# Altium integrated library Agilent Optoelectronic LED.IntLib: 357 symbols (part 1 of 6)
Pins are listed as number, name and electrical type; pins without a type are passive.

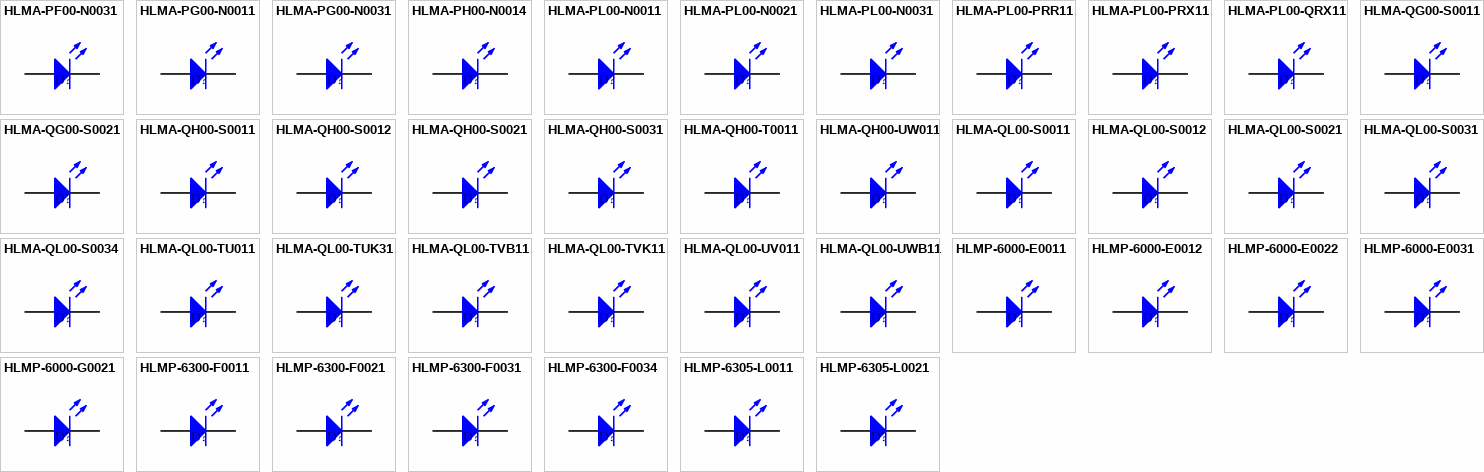
[diagram p0: symbols HLMA-PF00-N0031 to HLMP-6305-L0021]

## HLMA-PF00-N0031
designator D?
Subminiature High Performance AlInGaP Red LED Lamp; LuminousIntensity: 25mcd (Minimum).; PCB_Layout: Complies with manufacturer's recommendation.; DrillSize: Nominal, Rounded to nearest 0.05mm; Published: 11-Dec-2002; DatasheetDocument: 24-Oct-2001; PackageDocument: 19-Apr-2001; PackageReference: 2.2X2.1X2.2Z; Publisher: Altium Limited; LED_Colour: Red; ComponentLink1Description: Manufacturer Link; ComponentLink1URL: http://www.agilent.com/; ComponentLink2Description: Datasheet; ComponentLink2URL: http://cp.literature.agilent.com/litweb/pdf/5988-4548EN.pdf
footprint 2.2X2.1X2.2Z (SM LED; 2 Z-Bend Leads)
simulation model Agl_HLMPQG00 (Diode)
signal-integrity model LED
pins: 1 A, 2 K

## HLMA-PG00-N0011
designator D?
Subminiature High Performance AlInGaP Red LED Lamp; LuminousIntensity: 25mcd (Minimum).; PCB_Layout: Complies with manufacturer's recommendation.; Published: 11-Dec-2002; LatestRevisionDate: 19-Mar-2004; LatestRevisionNote: Silkscreen size reduced.; DatasheetDocument: 24-Oct-2001; PackageDocument: 19-Apr-2001; PackageReference: 2.2X2.1X2.2; Publisher: Altium Limited; LED_Colour: Red; ComponentLink1Description: Manufacturer Link; ComponentLink1URL: http://www.agilent.com/; ComponentLink2Description: Datasheet; ComponentLink2URL: http://cp.literature.agilent.com/litweb/pdf/5988-4548EN.pdf
footprint 2.2X2.1X2.2 (SM LED; 2 Gull Wing Leads; Body 2.2 x 2.1 mm, (LxW))
simulation model Agl_HLMPQG00 (Diode)
signal-integrity model LED
pins: 1 A, 2 K

## HLMA-PG00-N0031
designator D?
Subminiature High Performance AlInGaP Red LED Lamp; LuminousIntensity: 25mcd (Minimum).; PCB_Layout: Complies with manufacturer's recommendation.; DrillSize: Nominal, Rounded to nearest 0.05mm; Published: 11-Dec-2002; DatasheetDocument: 24-Oct-2001; PackageDocument: 19-Apr-2001; PackageReference: 2.2X2.1X2.2Z; Publisher: Altium Limited; LED_Colour: Red; ComponentLink1Description: Manufacturer Link; ComponentLink1URL: http://www.agilent.com/; ComponentLink2Description: Datasheet; ComponentLink2URL: http://cp.literature.agilent.com/litweb/pdf/5988-4548EN.pdf
footprint 2.2X2.1X2.2Z (SM LED; 2 Z-Bend Leads)
simulation model Agl_HLMPQG00 (Diode)
signal-integrity model LED
pins: 1 A, 2 K

## HLMA-PH00-N0014
designator D?
Subminiature High Performance AlInGaP Red/Orange LED Lamp; LuminousIntensity: 25mcd (Minimum).; LED_Colour: Red & Orange; PCB_Layout: Complies with manufacturer's recommendation.; Published: 11-Dec-2002; LatestRevisionDate: 19-Mar-2004; LatestRevisionNote: Silkscreen size reduced.; DatasheetDocument: 24-Oct-2001; PackageDocument: 19-Apr-2001; PackageReference: 2.2X2.1X2.2; Publisher: Altium Limited; ComponentLink1Description: Manufacturer Link; ComponentLink1URL: http://www.agilent.com/; ComponentLink2Description: Datasheet; ComponentLink2URL: http://cp.literature.agilent.com/litweb/pdf/5988-4548EN.pdf
footprint 2.2X2.1X2.2 (SM LED; 2 Gull Wing Leads; Body 2.2 x 2.1 mm, (LxW))
simulation model Agl_HLMPQG00 (Diode)
signal-integrity model LED
pins: 1 A, 2 K

## HLMA-PL00-N0011
designator D?
Subminiature High Performance AlInGaP Amber LED Lamp; LuminousIntensity: 25mcd (Minimum).; PCB_Layout: Complies with manufacturer's recommendation.; Published: 11-Dec-2002; LatestRevisionDate: 19-Mar-2004; LatestRevisionNote: Silkscreen size reduced.; DatasheetDocument: 24-Oct-2001; PackageDocument: 19-Apr-2001; PackageReference: 2.2X2.1X2.2; Publisher: Altium Limited; LED_Colour: Amber; ComponentLink1Description: Manufacturer Link; ComponentLink1URL: http://www.agilent.com/; ComponentLink2Description: Datasheet; ComponentLink2URL: http://cp.literature.agilent.com/litweb/pdf/5988-4548EN.pdf
footprint 2.2X2.1X2.2 (SM LED; 2 Gull Wing Leads; Body 2.2 x 2.1 mm, (LxW))
simulation model Agl_HLMPQG00 (Diode)
signal-integrity model LED
pins: 1 A, 2 K

## HLMA-PL00-N0021
designator D?
Subminiature High Performance AlInGaP Amber LED Lamp; LuminousIntensity: 25mcd (Minimum).; PCB_Layout: Complies with manufacturer's recommendation.; DrillSize: Nominal, Rounded to nearest 0.05mm; Published: 11-Dec-2002; DatasheetDocument: 24-Oct-2001; PackageDocument: 19-Apr-2001; PackageReference: 2.2X2.1X2.2Y; Publisher: Altium Limited; LED_Colour: Amber; ComponentLink1Description: Manufacturer Link; ComponentLink1URL: http://www.agilent.com/; ComponentLink2Description: Datasheet; ComponentLink2URL: http://cp.literature.agilent.com/litweb/pdf/5988-4548EN.pdf
footprint 2.2X2.1X2.2Y (SM LED; 2 Yoke Leads)
simulation model Agl_HLMPQG00 (Diode)
signal-integrity model LED
pins: 1 A, 2 K

## HLMA-PL00-N0031
designator D?
Subminiature High Performance AlInGaP Amber LED Lamp; LuminousIntensity: 25mcd (Minimum).; PCB_Layout: Complies with manufacturer's recommendation.; DrillSize: Nominal, Rounded to nearest 0.05mm; Published: 11-Dec-2002; DatasheetDocument: 24-Oct-2001; PackageDocument: 19-Apr-2001; PackageReference: 2.2X2.1X2.2Z; Publisher: Altium Limited; LED_Colour: Amber; ComponentLink1Description: Manufacturer Link; ComponentLink1URL: http://www.agilent.com/; ComponentLink2Description: Datasheet; ComponentLink2URL: http://cp.literature.agilent.com/litweb/pdf/5988-4548EN.pdf
footprint 2.2X2.1X2.2Z (SM LED; 2 Z-Bend Leads)
simulation model Agl_HLMPQG00 (Diode)
signal-integrity model LED
pins: 1 A, 2 K

## HLMA-PL00-PRR11
designator D?
Subminiature High Performance AlInGaP Amber LED Lamp; LuminousIntensity: 40mcd (Minimum).; PCB_Layout: Complies with manufacturer's recommendation.; Published: 11-Dec-2002; LatestRevisionDate: 19-Mar-2004; LatestRevisionNote: Silkscreen size reduced.; DatasheetDocument: 24-Oct-2001; PackageDocument: 19-Apr-2001; PackageReference: 2.2X2.1X2.2; Publisher: Altium Limited; LED_Colour: Amber; ComponentLink1Description: Manufacturer Link; ComponentLink1URL: http://www.agilent.com/; ComponentLink2Description: Datasheet; ComponentLink2URL: http://cp.literature.agilent.com/litweb/pdf/5988-4548EN.pdf
footprint 2.2X2.1X2.2 (SM LED; 2 Gull Wing Leads; Body 2.2 x 2.1 mm, (LxW))
simulation model Agl_HLMPQG00 (Diode)
signal-integrity model LED
pins: 1 A, 2 K

## HLMA-PL00-PRX11
designator D?
Subminiature High Performance AlInGaP Amber LED Lamp; LuminousIntensity: 40mcd (Minimum).; PCB_Layout: Complies with manufacturer's recommendation.; Published: 11-Dec-2002; LatestRevisionDate: 19-Mar-2004; LatestRevisionNote: Silkscreen size reduced.; DatasheetDocument: 24-Oct-2001; PackageDocument: 19-Apr-2001; PackageReference: 2.2X2.1X2.2; Publisher: Altium Limited; LED_Colour: Amber; ComponentLink1Description: Manufacturer Link; ComponentLink1URL: http://www.agilent.com/; ComponentLink2Description: Datasheet; ComponentLink2URL: http://cp.literature.agilent.com/litweb/pdf/5988-4548EN.pdf
footprint 2.2X2.1X2.2 (SM LED; 2 Gull Wing Leads; Body 2.2 x 2.1 mm, (LxW))
simulation model Agl_HLMPQG00 (Diode)
signal-integrity model LED
pins: 1 A, 2 K

## HLMA-PL00-QRX11
designator D?
Subminiature High Performance AlInGaP Amber LED Lamp; LuminousIntensity: 63mcd (Minimum).; PCB_Layout: Complies with manufacturer's recommendation.; Published: 11-Dec-2002; LatestRevisionDate: 19-Mar-2004; LatestRevisionNote: Silkscreen size reduced.; DatasheetDocument: 24-Oct-2001; PackageDocument: 19-Apr-2001; PackageReference: 2.2X2.1X2.2; Publisher: Altium Limited; LED_Colour: Amber; ComponentLink1Description: Manufacturer Link; ComponentLink1URL: http://www.agilent.com/; ComponentLink2Description: Datasheet; ComponentLink2URL: http://cp.literature.agilent.com/litweb/pdf/5988-4548EN.pdf
footprint 2.2X2.1X2.2 (SM LED; 2 Gull Wing Leads; Body 2.2 x 2.1 mm, (LxW))
simulation model Agl_HLMPQG00 (Diode)
signal-integrity model LED
pins: 1 A, 2 K

## HLMA-QG00-S0011
designator D?
Subminiature High Performance AS AlInGaP Red LED Lamp; LuminousIntensity: 160mcd (Minimum).; PCB_Layout: Complies with manufacturer's recommendation.; DrillSize: Nominal, Rounded to nearest 0.05mm; Published: 11-Dec-2002; LatestRevisionDate: 19-Mar-2004; LatestRevisionNote: Silkscreen size reduced.; DatasheetDocument: 24-Oct-2001; PackageDocument: 19-Apr-2001; PackageReference: 2.2X2.1X2.9; Publisher: Altium Limited; LED_Colour: Red; ComponentLink1Description: Manufacturer Link; ComponentLink1URL: http://www.agilent.com/; ComponentLink2Description: Datasheet; ComponentLink2URL: http://cp.literature.agilent.com/litweb/pdf/5988-4548EN.pdf
footprint 2.2X2.1X2.9 (SM LED; 2 Gull Wing Leads; Body 2.2 x 2.1 mm, (LxW))
simulation model Agl_HLMPQG00 (Diode)
signal-integrity model LED
pins: 1 A, 2 K

## HLMA-QG00-S0021
designator D?
Subminiature High Performance AS AlInGaP Red LED Lamp; LuminousIntensity: 160mcd (Minimum).; PCB_Layout: Complies with manufacturer's recommendation.; DrillSize: Nominal, Rounded to nearest 0.05mm; Published: 11-Dec-2002; DatasheetDocument: 24-Oct-2001; PackageDocument: 19-Apr-2001; PackageReference: 2.2X2.1X2.9Y; Publisher: Altium Limited; LED_Colour: Red; ComponentLink1Description: Manufacturer Link; ComponentLink1URL: http://www.agilent.com/; ComponentLink2Description: Datasheet; ComponentLink2URL: http://cp.literature.agilent.com/litweb/pdf/5988-4548EN.pdf
footprint 2.2X2.1X2.9Y (SM LED; 2 Yoke Leads)
simulation model Agl_HLMPQG00 (Diode)
signal-integrity model LED
pins: 1 A, 2 K

## HLMA-QH00-S0011
designator D?
Subminiature High Performance AS AlInGaP Red/Orange LED Lamp; LuminousIntensity: 160mcd (Minimum).; LED_Colour: Red & Orange; PCB_Layout: Complies with manufacturer's recommendation.; Published: 11-Dec-2002; LatestRevisionDate: 19-Mar-2004; LatestRevisionNote: Silkscreen size reduced.; DatasheetDocument: 24-Oct-2001; PackageDocument: 19-Apr-2001; PackageReference: 2.2X2.1X2.9; Publisher: Altium Limited; ComponentLink1Description: Manufacturer Link; ComponentLink1URL: http://www.agilent.com/; ComponentLink2Description: Datasheet; ComponentLink2URL: http://cp.literature.agilent.com/litweb/pdf/5988-4548EN.pdf
footprint 2.2X2.1X2.9 (SM LED; 2 Gull Wing Leads; Body 2.2 x 2.1 mm, (LxW))
simulation model Agl_HLMPQG00 (Diode)
signal-integrity model LED
pins: 1 A, 2 K

## HLMA-QH00-S0012
designator D?
Subminiature High Performance AS AlInGaP Red/Orange LED Lamp; LuminousIntensity: 160mcd (Minimum).; LED_Colour: Red & Orange; PCB_Layout: Complies with manufacturer's recommendation.; Published: 11-Dec-2002; LatestRevisionDate: 19-Mar-2004; LatestRevisionNote: Silkscreen size reduced.; DatasheetDocument: 24-Oct-2001; PackageDocument: 19-Apr-2001; PackageReference: 2.2X2.1X2.9; Publisher: Altium Limited; ComponentLink1Description: Manufacturer Link; ComponentLink1URL: http://www.agilent.com/; ComponentLink2Description: Datasheet; ComponentLink2URL: http://cp.literature.agilent.com/litweb/pdf/5988-4548EN.pdf
footprint 2.2X2.1X2.9 (SM LED; 2 Gull Wing Leads; Body 2.2 x 2.1 mm, (LxW))
simulation model Agl_HLMPQG00 (Diode)
signal-integrity model LED
pins: 1 A, 2 K

## HLMA-QH00-S0021
designator D?
Subminiature High Performance AlInGaP Red/Orange LED Lamp; LuminousIntensity: 160mcd (Minimum).; LED_Colour: Red & Orange; PCB_Layout: Complies with manufacturer's recommendation.; DrillSize: Nominal, Rounded to nearest 0.05mm; Published: 11-Dec-2002; DatasheetDocument: 24-Oct-2001; PackageDocument: 19-Apr-2001; PackageReference: 2.2X2.1X2.9Y; Publisher: Altium Limited; ComponentLink1Description: Manufacturer Link; ComponentLink1URL: http://www.agilent.com/; ComponentLink2Description: Datasheet; ComponentLink2URL: http://cp.literature.agilent.com/litweb/pdf/5988-4548EN.pdf
footprint 2.2X2.1X2.9Y (SM LED; 2 Yoke Leads)
simulation model Agl_HLMPQG00 (Diode)
signal-integrity model LED
pins: 1 A, 2 K

## HLMA-QH00-S0031
designator D?
Subminiature High Performance AlInGaP Red/Orange LED Lamp; LuminousIntensity: 160mcd (Minimum).; LED_Colour: Red & Orange; PCB_Layout: Complies with manufacturer's recommendation.; DrillSize: Nominal, Rounded to nearest 0.05mm; Published: 11-Dec-2002; DatasheetDocument: 24-Oct-2001; PackageDocument: 19-Apr-2001; PackageReference: 2.2X2.1X2.9Z; Publisher: Altium Limited; ComponentLink1Description: Manufacturer Link; ComponentLink1URL: http://www.agilent.com/; ComponentLink2Description: Datasheet; ComponentLink2URL: http://cp.literature.agilent.com/litweb/pdf/5988-4548EN.pdf
footprint 2.2X2.1X2.9Z (SM LED; 2 Z-Bend Leads)
simulation model Agl_HLMPQG00 (Diode)
signal-integrity model LED
pins: 1 A, 2 K

## HLMA-QH00-T0011
designator D?
Subminiature High Performance AlInGaP Red/Orange LED Lamp; LuminousIntensity: 250mcd (Minimum).; LED_Colour: Red & Orange; PCB_Layout: Complies with manufacturer's recommendation.; Published: 11-Dec-2002; LatestRevisionDate: 19-Mar-2004; LatestRevisionNote: Silkscreen size reduced.; DatasheetDocument: 24-Oct-2001; PackageDocument: 19-Apr-2001; PackageReference: 2.2X2.1X2.9; Publisher: Altium Limited; ComponentLink1Description: Manufacturer Link; ComponentLink1URL: http://www.agilent.com/; ComponentLink2Description: Datasheet; ComponentLink2URL: http://cp.literature.agilent.com/litweb/pdf/5988-4548EN.pdf
footprint 2.2X2.1X2.9 (SM LED; 2 Gull Wing Leads; Body 2.2 x 2.1 mm, (LxW))
simulation model Agl_HLMPQG00 (Diode)
signal-integrity model LED
pins: 1 A, 2 K

## HLMA-QH00-UW011
designator D?
Subminiature High Performance AlInGaP Red/Orange LED Lamp; LuminousIntensity: 400mcd (Minimum).; LED_Colour: Red & Orange; PCB_Layout: Complies with manufacturer's recommendation.; Published: 11-Dec-2002; LatestRevisionDate: 19-Mar-2004; LatestRevisionNote: Silkscreen size reduced.; DatasheetDocument: 24-Oct-2001; PackageDocument: 19-Apr-2001; PackageReference: 2.2X2.1X2.9; Publisher: Altium Limited; ComponentLink1Description: Manufacturer Link; ComponentLink1URL: http://www.agilent.com/; ComponentLink2Description: Datasheet; ComponentLink2URL: http://cp.literature.agilent.com/litweb/pdf/5988-4548EN.pdf
footprint 2.2X2.1X2.9 (SM LED; 2 Gull Wing Leads; Body 2.2 x 2.1 mm, (LxW))
simulation model Agl_HLMPQG00 (Diode)
signal-integrity model LED
pins: 1 A, 2 K

## HLMA-QL00-S0011
designator D?
Subminiature High Performance AlInGaP Amber LED Lamp; LuminousIntensity: 160mcd (Minimum).; PCB_Layout: Complies with manufacturer's recommendation.; Published: 11-Dec-2002; LatestRevisionDate: 19-Mar-2004; LatestRevisionNote: Silkscreen size reduced.; DatasheetDocument: 24-Oct-2001; PackageDocument: 19-Apr-2001; PackageReference: 2.2X2.1X2.9; Publisher: Altium Limited; LED_Colour: Amber; ComponentLink1Description: Manufacturer Link; ComponentLink1URL: http://www.agilent.com/; ComponentLink2Description: Datasheet; ComponentLink2URL: http://cp.literature.agilent.com/litweb/pdf/5988-4548EN.pdf
footprint 2.2X2.1X2.9 (SM LED; 2 Gull Wing Leads; Body 2.2 x 2.1 mm, (LxW))
simulation model Agl_HLMPQG00 (Diode)
signal-integrity model LED
pins: 1 A, 2 K

## HLMA-QL00-S0012
designator D?
Subminiature High Performance AlInGaP Amber LED Lamp; LuminousIntensity: 160mcd (Minimum).; PCB_Layout: Complies with manufacturer's recommendation.; Published: 11-Dec-2002; LatestRevisionDate: 19-Mar-2004; LatestRevisionNote: Silkscreen size reduced.; DatasheetDocument: 24-Oct-2001; PackageDocument: 19-Apr-2001; PackageReference: 2.2X2.1X2.9; Publisher: Altium Limited; LED_Colour: Amber; ComponentLink1Description: Manufacturer Link; ComponentLink1URL: http://www.agilent.com/; ComponentLink2Description: Datasheet; ComponentLink2URL: http://cp.literature.agilent.com/litweb/pdf/5988-4548EN.pdf
footprint 2.2X2.1X2.9 (SM LED; 2 Gull Wing Leads; Body 2.2 x 2.1 mm, (LxW))
simulation model Agl_HLMPQG00 (Diode)
signal-integrity model LED
pins: 1 A, 2 K

## HLMA-QL00-S0021
designator D?
Subminiature High Performance AlInGaP Amber LED Lamp; LuminousIntensity: 160mcd (Minimum).; PCB_Layout: Complies with manufacturer's recommendation.; DrillSize: Nominal, Rounded to nearest 0.05mm; Published: 11-Dec-2002; DatasheetDocument: 24-Oct-2001; PackageDocument: 19-Apr-2001; PackageReference: 2.2X2.1X2.9Y; Publisher: Altium Limited; LED_Colour: Amber; ComponentLink1Description: Manufacturer Link; ComponentLink1URL: http://www.agilent.com/; ComponentLink2Description: Datasheet; ComponentLink2URL: http://cp.literature.agilent.com/litweb/pdf/5988-4548EN.pdf
footprint 2.2X2.1X2.9Y (SM LED; 2 Yoke Leads)
simulation model Agl_HLMPQG00 (Diode)
signal-integrity model LED
pins: 1 A, 2 K

## HLMA-QL00-S0031
designator D?
Subminiature High Performance AlInGaP Amber LED Lamp; LuminousIntensity: 160mcd (Minimum).; PCB_Layout: Complies with manufacturer's recommendation.; DrillSize: Nominal, Rounded to nearest 0.05mm; Published: 11-Dec-2002; DatasheetDocument: 24-Oct-2001; PackageDocument: 19-Apr-2001; PackageReference: 2.2X2.1X2.9Z; Publisher: Altium Limited; LED_Colour: Amber; ComponentLink1Description: Manufacturer Link; ComponentLink1URL: http://www.agilent.com/; ComponentLink2Description: Datasheet; ComponentLink2URL: http://cp.literature.agilent.com/litweb/pdf/5988-4548EN.pdf
footprint 2.2X2.1X2.9Z (SM LED; 2 Z-Bend Leads)
simulation model Agl_HLMPQG00 (Diode)
signal-integrity model LED
pins: 1 A, 2 K

## HLMA-QL00-S0034
designator D?
Subminiature High Performance AlInGaP Amber LED Lamp; LuminousIntensity: 160mcd (Minimum).; PCB_Layout: Complies with manufacturer's recommendation.; DrillSize: Nominal, Rounded to nearest 0.05mm; Published: 11-Dec-2002; DatasheetDocument: 24-Oct-2001; PackageDocument: 19-Apr-2001; PackageReference: 2.2X2.1X2.9Z; Publisher: Altium Limited; LED_Colour: Amber; ComponentLink1Description: Manufacturer Link; ComponentLink1URL: http://www.agilent.com/; ComponentLink2Description: Datasheet; ComponentLink2URL: http://cp.literature.agilent.com/litweb/pdf/5988-4548EN.pdf
footprint 2.2X2.1X2.9Z (SM LED; 2 Z-Bend Leads)
simulation model Agl_HLMPQG00 (Diode)
signal-integrity model LED
pins: 1 A, 2 K

## HLMA-QL00-TU011
designator D?
Subminiature High Performance AlInGaP Amber LED Lamp; LuminousIntensity: 250mcd (Minimum).; PCB_Layout: Complies with manufacturer's recommendation.; Published: 11-Dec-2002; LatestRevisionDate: 19-Mar-2004; LatestRevisionNote: Silkscreen size reduced.; DatasheetDocument: 24-Oct-2001; PackageDocument: 19-Apr-2001; PackageReference: 2.2X2.1X2.9; Publisher: Altium Limited; LED_Colour: Amber; ComponentLink1Description: Manufacturer Link; ComponentLink1URL: http://www.agilent.com/; ComponentLink2Description: Datasheet; ComponentLink2URL: http://cp.literature.agilent.com/litweb/pdf/5988-4548EN.pdf
footprint 2.2X2.1X2.9 (SM LED; 2 Gull Wing Leads; Body 2.2 x 2.1 mm, (LxW))
simulation model Agl_HLMPQG00 (Diode)
signal-integrity model LED
pins: 1 A, 2 K

## HLMA-QL00-TUK31
designator D?
Subminiature High Performance AlInGaP Amber LED Lamp; LuminousIntensity: 250mcd (Minimum).; PCB_Layout: Complies with manufacturer's recommendation.; DrillSize: Nominal, Rounded to nearest 0.05mm; Published: 11-Dec-2002; DatasheetDocument: 24-Oct-2001; PackageDocument: 19-Apr-2001; PackageReference: 2.2X2.1X2.9Z; Publisher: Altium Limited; LED_Colour: Amber; ComponentLink1Description: Manufacturer Link; ComponentLink1URL: http://www.agilent.com/; ComponentLink2Description: Datasheet; ComponentLink2URL: http://cp.literature.agilent.com/litweb/pdf/5988-4548EN.pdf
footprint 2.2X2.1X2.9Z (SM LED; 2 Z-Bend Leads)
simulation model Agl_HLMPQG00 (Diode)
signal-integrity model LED
pins: 1 A, 2 K

## HLMA-QL00-TVB11
designator D?
Subminiature High Performance AlInGaP Amber LED Lamp; LuminousIntensity: 250mcd (Minimum).; PCB_Layout: Complies with manufacturer's recommendation.; Published: 11-Dec-2002; LatestRevisionDate: 19-Mar-2004; LatestRevisionNote: Silkscreen size reduced.; DatasheetDocument: 24-Oct-2001; PackageDocument: 19-Apr-2001; PackageReference: 2.2X2.1X2.9; Publisher: Altium Limited; LED_Colour: Amber; ComponentLink1Description: Manufacturer Link; ComponentLink1URL: http://www.agilent.com/; ComponentLink2Description: Datasheet; ComponentLink2URL: http://cp.literature.agilent.com/litweb/pdf/5988-4548EN.pdf
footprint 2.2X2.1X2.9 (SM LED; 2 Gull Wing Leads; Body 2.2 x 2.1 mm, (LxW))
simulation model Agl_HLMPQG00 (Diode)
signal-integrity model LED
pins: 1 A, 2 K

## HLMA-QL00-TVK11
designator D?
Subminiature High Performance AlInGaP Amber LED Lamp; LuminousIntensity: 250mcd (Minimum).; PCB_Layout: Complies with manufacturer's recommendation.; Published: 11-Dec-2002; LatestRevisionDate: 19-Mar-2004; LatestRevisionNote: Silkscreen size reduced.; DatasheetDocument: 24-Oct-2001; PackageDocument: 19-Apr-2001; PackageReference: 2.2X2.1X2.9; Publisher: Altium Limited; LED_Colour: Amber; ComponentLink1Description: Manufacturer Link; ComponentLink1URL: http://www.agilent.com/; ComponentLink2Description: Datasheet; ComponentLink2URL: http://cp.literature.agilent.com/litweb/pdf/5988-4548EN.pdf
footprint 2.2X2.1X2.9 (SM LED; 2 Gull Wing Leads; Body 2.2 x 2.1 mm, (LxW))
simulation model Agl_HLMPQG00 (Diode)
signal-integrity model LED
pins: 1 A, 2 K

## HLMA-QL00-UV011
designator D?
Subminiature High Performance AlInGaP Amber LED Lamp; LuminousIntensity: 400mcd (Minimum).; PCB_Layout: Complies with manufacturer's recommendation.; Published: 11-Dec-2002; LatestRevisionDate: 19-Mar-2004; LatestRevisionNote: Silkscreen size reduced.; DatasheetDocument: 24-Oct-2001; PackageDocument: 19-Apr-2001; PackageReference: 2.2X2.1X2.9; Publisher: Altium Limited; LED_Colour: Amber; ComponentLink1Description: Manufacturer Link; ComponentLink1URL: http://www.agilent.com/; ComponentLink2Description: Datasheet; ComponentLink2URL: http://cp.literature.agilent.com/litweb/pdf/5988-4548EN.pdf
footprint 2.2X2.1X2.9 (SM LED; 2 Gull Wing Leads; Body 2.2 x 2.1 mm, (LxW))
simulation model Agl_HLMPQG00 (Diode)
signal-integrity model LED
pins: 1 A, 2 K

## HLMA-QL00-UWB11
designator D?
Subminiature High Performance AlInGaP Amber LED Lamp; LuminousIntensity: 400mcd (Minimum).; PCB_Layout: Complies with manufacturer's recommendation.; Published: 11-Dec-2002; LatestRevisionDate: 19-Mar-2004; LatestRevisionNote: Silkscreen size reduced.; DatasheetDocument: 24-Oct-2001; PackageDocument: 19-Apr-2001; PackageReference: 2.2X2.1X2.9; Publisher: Altium Limited; LED_Colour: Amber; ComponentLink1Description: Manufacturer Link; ComponentLink1URL: http://www.agilent.com/; ComponentLink2Description: Datasheet; ComponentLink2URL: http://cp.literature.agilent.com/litweb/pdf/5988-4548EN.pdf
footprint 2.2X2.1X2.9 (SM LED; 2 Gull Wing Leads; Body 2.2 x 2.1 mm, (LxW))
simulation model Agl_HLMPQG00 (Diode)
signal-integrity model LED
pins: 1 A, 2 K

## HLMP-6000-E0011
designator D?
Subminiature Red LED Lamp; LuminousIntensity: 0.63mcd (Minimum).; PCB_Layout: Complies with manufacturer's recommendation.; Published: 11-Dec-2002; LatestRevisionDate: 19-Mar-2004; LatestRevisionNote: Silkscreen size reduced.; DatasheetDocument: 30-Apr-2002; PackageDocument: Apr-2001; PackageReference: 2.2X2.1X2.9; Publisher: Altium Limited; LED_Colour: Red; ComponentLink1Description: Manufacturer Link; ComponentLink1URL: http://www.agilent.com/; ComponentLink2Description: Datasheet; ComponentLink2URL: http://cp.literature.agilent.com/litweb/pdf/5988-6260EN.pdf
footprint 2.2X2.1X2.9 (SM LED; 2 Gull Wing Leads; Body 2.2 x 2.1 mm, (LxW))
simulation model HLMP6000 (SUBCKT)
signal-integrity model LED
pins: 1 A, 2 K

## HLMP-6000-E0012
designator D?
Subminiature Red LED Lamp; LuminousIntensity: 0.63mcd (Minimum).; PCB_Layout: Complies with manufacturer's recommendation.; Published: 11-Dec-2002; LatestRevisionDate: 19-Mar-2004; LatestRevisionNote: Silkscreen size reduced.; DatasheetDocument: 30-Apr-2002; PackageDocument: Apr-2001; PackageReference: 2.2X2.1X2.9; Publisher: Altium Limited; LED_Colour: Red; ComponentLink1Description: Manufacturer Link; ComponentLink1URL: http://www.agilent.com/; ComponentLink2Description: Datasheet; ComponentLink2URL: http://cp.literature.agilent.com/litweb/pdf/5988-6260EN.pdf
footprint 2.2X2.1X2.9 (SM LED; 2 Gull Wing Leads; Body 2.2 x 2.1 mm, (LxW))
simulation model HLMP6000 (SUBCKT)
signal-integrity model LED
pins: 1 A, 2 K

## HLMP-6000-E0022
designator D?
Subminiature Red LED Lamp; LuminousIntensity: 0.63mcd (Minimum).; PCB_Layout: Complies with manufacturer's recommendation.; DrillSize: Nominal, Rounded to nearest 0.05mm; Published: 11-Dec-2002; DatasheetDocument: 30-Apr-2002; PackageDocument: 19-Apr-2001; PackageReference: 2.2X2.1X2.9Y; Publisher: Altium Limited; LED_Colour: Red; ComponentLink1Description: Manufacturer Link; ComponentLink1URL: http://www.agilent.com/; ComponentLink2Description: Datasheet; ComponentLink2URL: http://cp.literature.agilent.com/litweb/pdf/5988-6260EN.pdf
footprint 2.2X2.1X2.9Y (SM LED; 2 Yoke Leads)
simulation model HLMP6000 (SUBCKT)
signal-integrity model LED
pins: 1 A, 2 K

## HLMP-6000-E0031
designator D?
Subminiature Red LED Lamp; LuminousIntensity: 0.63mcd (Minimum).; PCB_Layout: Complies with manufacturer's recommendation.; DrillSize: Nominal, Rounded to nearest 0.05mm; Published: 11-Dec-2002; DatasheetDocument: 30-Apr-2002; PackageDocument: 19-Apr-2001; PackageReference: 2.2X2.1X2.9Z; Publisher: Altium Limited; LED_Colour: Red; ComponentLink1Description: Manufacturer Link; ComponentLink1URL: http://www.agilent.com/; ComponentLink2Description: Datasheet; ComponentLink2URL: http://cp.literature.agilent.com/litweb/pdf/5988-6260EN.pdf
footprint 2.2X2.1X2.9Z (SM LED; 2 Z-Bend Leads)
simulation model HLMP6000 (SUBCKT)
signal-integrity model LED
pins: 1 A, 2 K

## HLMP-6000-G0021
designator D?
Subminiature Red LED Lamp; LuminousIntensity: 1.6mcd (Minimum).; PCB_Layout: Complies with manufacturer's recommendation.; DrillSize: Nominal, Rounded to nearest 0.05mm; Published: 11-Dec-2002; DatasheetDocument: 30-Apr-2002; PackageDocument: 19-Apr-2001; PackageReference: 2.2X2.1X2.9Y; Publisher: Altium Limited; LED_Colour: Red; ComponentLink1Description: Manufacturer Link; ComponentLink1URL: http://www.agilent.com/; ComponentLink2Description: Datasheet; ComponentLink2URL: http://cp.literature.agilent.com/litweb/pdf/5988-6260EN.pdf
footprint 2.2X2.1X2.9Y (SM LED; 2 Yoke Leads)
simulation model HLMP6000 (SUBCKT)
signal-integrity model LED
pins: 1 A, 2 K

## HLMP-6300-F0011
designator D?
Subminiature Red LED Lamp; LuminousIntensity: 1mcd (Minimum).; PCB_Layout: Complies with manufacturer's recommendation.; Published: 11-Dec-2002; LatestRevisionDate: 19-Mar-2004; LatestRevisionNote: Silkscreen size reduced.; DatasheetDocument: 30-Apr-2002; PackageDocument: 19-Apr-2001; PackageReference: 2.2X2.1X2.9; Publisher: Altium Limited; LED_Colour: Red; ComponentLink1Description: Manufacturer Link; ComponentLink1URL: http://www.agilent.com/; ComponentLink2Description: Datasheet; ComponentLink2URL: http://cp.literature.agilent.com/litweb/pdf/5988-6260EN.pdf
footprint 2.2X2.1X2.9 (SM LED; 2 Gull Wing Leads; Body 2.2 x 2.1 mm, (LxW))
simulation model Agl_HLMP7000 (Diode)
signal-integrity model LED
pins: 1 A, 2 K

## HLMP-6300-F0021
designator D?
Subminiature Red LED Lamp; LuminousIntensity: 1mcd (Minimum).; PCB_Layout: Complies with manufacturer's recommendation.; DrillSize: Nominal, Rounded to nearest 0.05mm; Published: 11-Dec-2002; DatasheetDocument: 30-Apr-2002; PackageDocument: 19-Apr-2001; PackageReference: 2.2X2.1X2.9Y; Publisher: Altium Limited; LED_Colour: Red; ComponentLink1Description: Manufacturer Link; ComponentLink1URL: http://www.agilent.com/; ComponentLink2Description: Datasheet; ComponentLink2URL: http://cp.literature.agilent.com/litweb/pdf/5988-6260EN.pdf
footprint 2.2X2.1X2.9Y (SM LED; 2 Yoke Leads)
simulation model Agl_HLMP7000 (Diode)
signal-integrity model LED
pins: 1 A, 2 K

## HLMP-6300-F0031
designator D?
Subminiature Red LED Lamp; LuminousIntensity: 1mcd (Minimum).; PCB_Layout: Complies with manufacturer's recommendation.; DrillSize: Nominal, Rounded to nearest 0.05mm; Published: 11-Dec-2002; DatasheetDocument: 30-Apr-2002; PackageDocument: 19-Apr-2001; PackageReference: 2.2X2.1X2.9Z; Publisher: Altium Limited; LED_Colour: Red; ComponentLink1Description: Manufacturer Link; ComponentLink1URL: http://www.agilent.com/; ComponentLink2Description: Datasheet; ComponentLink2URL: http://cp.literature.agilent.com/litweb/pdf/5988-6260EN.pdf
footprint 2.2X2.1X2.9Z (SM LED; 2 Z-Bend Leads)
simulation model Agl_HLMP7000 (Diode)
signal-integrity model LED
pins: 1 A, 2 K

## HLMP-6300-F0034
designator D?
Subminiature Red LED Lamp; LuminousIntensity: 1mcd (Minimum).; PCB_Layout: Complies with manufacturer's recommendation.; DrillSize: Nominal, Rounded to nearest 0.05mm; Published: 11-Dec-2002; DatasheetDocument: 30-Apr-2002; PackageDocument: 19-Apr-2001; PackageReference: 2.2X2.1X2.9Z; Publisher: Altium Limited; LED_Colour: Red; ComponentLink1Description: Manufacturer Link; ComponentLink1URL: http://www.agilent.com/; ComponentLink2Description: Datasheet; ComponentLink2URL: http://cp.literature.agilent.com/litweb/pdf/5988-6260EN.pdf
footprint 2.2X2.1X2.9Z (SM LED; 2 Z-Bend Leads)
simulation model Agl_HLMP7000 (Diode)
signal-integrity model LED
pins: 1 A, 2 K

## HLMP-6305-L0011
designator D?
Subminiature Red LED Lamp; LuminousIntensity: 10mcd (Minimum).; PCB_Layout: Complies with manufacturer's recommendation.; Published: 11-Dec-2002; LatestRevisionDate: 19-Mar-2004; LatestRevisionNote: Silkscreen size reduced.; DatasheetDocument: 30-Apr-2002; PackageDocument: 19-Apr-2001; PackageReference: 2.2X2.1X2.9; Publisher: Altium Limited; LED_Colour: Red; ComponentLink1Description: Manufacturer Link; ComponentLink1URL: http://www.agilent.com/; ComponentLink2Description: Datasheet; ComponentLink2URL: http://cp.literature.agilent.com/litweb/pdf/5988-6260EN.pdf
footprint 2.2X2.1X2.9 (SM LED; 2 Gull Wing Leads; Body 2.2 x 2.1 mm, (LxW))
simulation model Agl_HLMP7000 (Diode)
signal-integrity model LED
pins: 1 A, 2 K

## HLMP-6305-L0021
designator D?
Subminiature Red LED Lamp; LuminousIntensity: 10mcd (Minimum).; PCB_Layout: Complies with manufacturer's recommendation.; DrillSize: Nominal, Rounded to nearest 0.05mm; Published: 11-Dec-2002; DatasheetDocument: 30-Apr-2002; PackageDocument: 19-Apr-2001; PackageReference: 2.2X2.1X2.9Y; Publisher: Altium Limited; LED_Colour: Red; ComponentLink1Description: Manufacturer Link; ComponentLink1URL: http://www.agilent.com/; ComponentLink2Description: Datasheet; ComponentLink2URL: http://cp.literature.agilent.com/litweb/pdf/5988-6260EN.pdf
footprint 2.2X2.1X2.9Y (SM LED; 2 Yoke Leads)
simulation model Agl_HLMP7000 (Diode)
signal-integrity model LED
pins: 1 A, 2 K

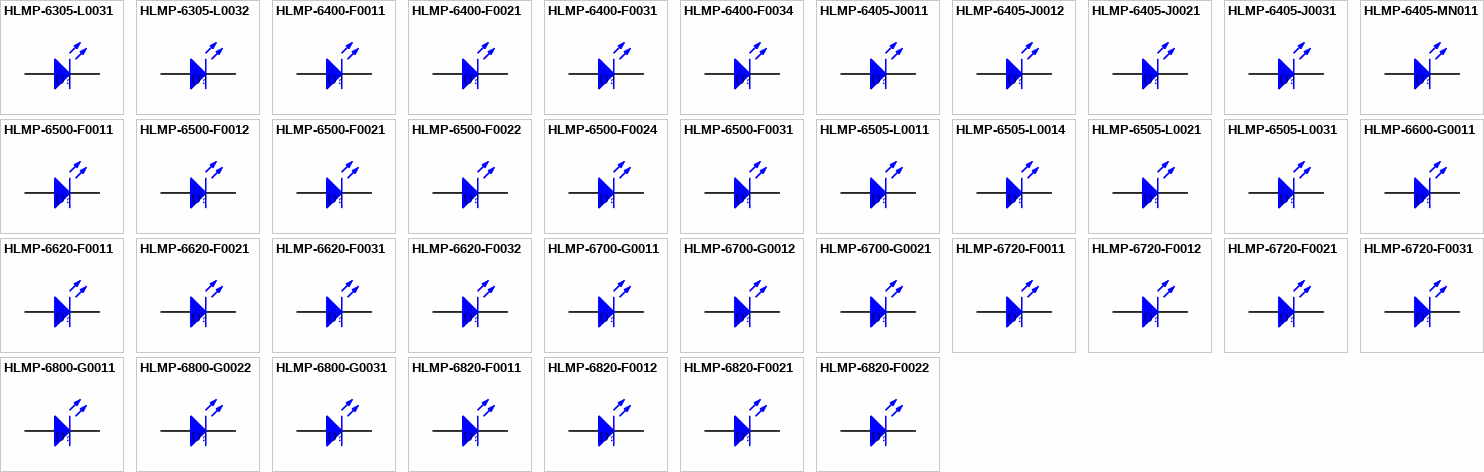
[diagram p1: symbols HLMP-6305-L0031 to HLMP-6820-F0022]

## HLMP-6305-L0031
designator D?
Subminiature Red LED Lamp; LuminousIntensity: 10mcd (Minimum).; PCB_Layout: Complies with manufacturer's recommendation.; DrillSize: Nominal, Rounded to nearest 0.05mm; Published: 11-Dec-2002; DatasheetDocument: 30-Apr-2002; PackageDocument: 19-Apr-2001; PackageReference: 2.2X2.1X2.9Z; Publisher: Altium Limited; LED_Colour: Red; ComponentLink1Description: Manufacturer Link; ComponentLink1URL: http://www.agilent.com/; ComponentLink2Description: Datasheet; ComponentLink2URL: http://cp.literature.agilent.com/litweb/pdf/5988-6260EN.pdf
footprint 2.2X2.1X2.9Z (SM LED; 2 Z-Bend Leads)
simulation model Agl_HLMP7000 (Diode)
signal-integrity model LED
pins: 1 A, 2 K

## HLMP-6305-L0032
designator D?
Subminiature Red LED Lamp; LuminousIntensity: 10mcd (Minimum).; PCB_Layout: Complies with manufacturer's recommendation.; DrillSize: Nominal, Rounded to nearest 0.05mm; Published: 11-Dec-2002; DatasheetDocument: 30-Apr-2002; PackageDocument: 19-Apr-2001; PackageReference: 2.2X2.1X2.9Z; Publisher: Altium Limited; LED_Colour: Red; ComponentLink1Description: Manufacturer Link; ComponentLink1URL: http://www.agilent.com/; ComponentLink2Description: Datasheet; ComponentLink2URL: http://cp.literature.agilent.com/litweb/pdf/5988-6260EN.pdf
footprint 2.2X2.1X2.9Z (SM LED; 2 Z-Bend Leads)
simulation model Agl_HLMP7000 (Diode)
signal-integrity model LED
pins: 1 A, 2 K

## HLMP-6400-F0011
designator D?
Subminiature Yellow LED Lamp; LuminousIntensity: 1mcd (Minimum).; PCB_Layout: Complies with manufacturer's recommendation.; Published: 11-Dec-2002; LatestRevisionDate: 19-Mar-2004; LatestRevisionNote: Silkscreen size reduced.; DatasheetDocument: 30-Apr-2002; PackageDocument: 19-Apr-2001; PackageReference: 2.2X2.1X2.9; Publisher: Altium Limited; LED_Colour: Yellow; ComponentLink1Description: Manufacturer Link; ComponentLink1URL: http://www.agilent.com/; ComponentLink2Description: Datasheet; ComponentLink2URL: http://cp.literature.agilent.com/litweb/pdf/5988-6260EN.pdf
footprint 2.2X2.1X2.9 (SM LED; 2 Gull Wing Leads; Body 2.2 x 2.1 mm, (LxW))
simulation model Agl_HLMP7019 (Diode)
signal-integrity model LED
pins: 1 A, 2 K

## HLMP-6400-F0021
designator D?
Subminiature Yellow LED Lamp; LuminousIntensity: 1mcd (Minimum).; PCB_Layout: Complies with manufacturer's recommendation.; DrillSize: Nominal, Rounded to nearest 0.05mm; Published: 11-Dec-2002; DatasheetDocument: 30-Apr-2002; PackageDocument: 19-Apr-2001; PackageReference: 2.2X2.1X2.9Y; Publisher: Altium Limited; LED_Colour: Yellow; ComponentLink1Description: Manufacturer Link; ComponentLink1URL: http://www.agilent.com/; ComponentLink2Description: Datasheet; ComponentLink2URL: http://cp.literature.agilent.com/litweb/pdf/5988-6260EN.pdf
footprint 2.2X2.1X2.9Y (SM LED; 2 Yoke Leads)
simulation model Agl_HLMP7019 (Diode)
signal-integrity model LED
pins: 1 A, 2 K

## HLMP-6400-F0031
designator D?
Subminiature Yellow LED Lamp; LuminousIntensity: 1mcd (Minimum).; PCB_Layout: Complies with manufacturer's recommendation.; DrillSize: Nominal, Rounded to nearest 0.05mm; Published: 11-Dec-2002; DatasheetDocument: 30-Apr-2002; PackageDocument: 19-Apr-2001; PackageReference: 2.2X2.1X2.9Z; Publisher: Altium Limited; LED_Colour: Yellow; ComponentLink1Description: Manufacturer Link; ComponentLink1URL: http://www.agilent.com/; ComponentLink2Description: Datasheet; ComponentLink2URL: http://cp.literature.agilent.com/litweb/pdf/5988-6260EN.pdf
footprint 2.2X2.1X2.9Z (SM LED; 2 Z-Bend Leads)
simulation model Agl_HLMP7019 (Diode)
signal-integrity model LED
pins: 1 A, 2 K

## HLMP-6400-F0034
designator D?
Subminiature Yellow LED Lamp; LuminousIntensity: 1mcd (Minimum).; PCB_Layout: Complies with manufacturer's recommendation.; DrillSize: Nominal, Rounded to nearest 0.05mm; Published: 11-Dec-2002; DatasheetDocument: 30-Apr-2002; PackageDocument: 19-Apr-2001; PackageReference: 2.2X2.1X2.9Z; Publisher: Altium Limited; LED_Colour: Yellow; ComponentLink1Description: Manufacturer Link; ComponentLink1URL: http://www.agilent.com/; ComponentLink2Description: Datasheet; ComponentLink2URL: http://cp.literature.agilent.com/litweb/pdf/5988-6260EN.pdf
footprint 2.2X2.1X2.9Z (SM LED; 2 Z-Bend Leads)
simulation model Agl_HLMP7019 (Diode)
signal-integrity model LED
pins: 1 A, 2 K

## HLMP-6405-J0011
designator D?
Subminiature Yellow LED Lamp; LuminousIntensity: 3.6mcd (Minimum).; PCB_Layout: Complies with manufacturer's recommendation.; Published: 11-Dec-2002; LatestRevisionDate: 19-Mar-2004; LatestRevisionNote: Silkscreen size reduced.; DatasheetDocument: 30-Apr-2002; PackageDocument: 19-Apr-2001; PackageReference: 2.2X2.1X2.9; Publisher: Altium Limited; LED_Colour: Yellow; ComponentLink1Description: Manufacturer Link; ComponentLink1URL: http://www.agilent.com/; ComponentLink2Description: Datasheet; ComponentLink2URL: http://cp.literature.agilent.com/litweb/pdf/5988-6260EN.pdf
footprint 2.2X2.1X2.9 (SM LED; 2 Gull Wing Leads; Body 2.2 x 2.1 mm, (LxW))
simulation model Agl_HLMP7019 (Diode)
signal-integrity model LED
pins: 1 A, 2 K

## HLMP-6405-J0012
designator D?
Subminiature Yellow LED Lamp; LuminousIntensity: 3.6mcd (Minimum).; PCB_Layout: Complies with manufacturer's recommendation.; Published: 11-Dec-2002; LatestRevisionDate: 19-Mar-2004; LatestRevisionNote: Silkscreen size reduced.; DatasheetDocument: 30-Apr-2002; PackageDocument: 19-Apr-2001; PackageReference: 2.2X2.1X2.9; Publisher: Altium Limited; LED_Colour: Yellow; ComponentLink1Description: Manufacturer Link; ComponentLink1URL: http://www.agilent.com/; ComponentLink2Description: Datasheet; ComponentLink2URL: http://cp.literature.agilent.com/litweb/pdf/5988-6260EN.pdf
footprint 2.2X2.1X2.9 (SM LED; 2 Gull Wing Leads; Body 2.2 x 2.1 mm, (LxW))
simulation model Agl_HLMP7019 (Diode)
signal-integrity model LED
pins: 1 A, 2 K

## HLMP-6405-J0021
designator D?
Subminiature Yellow LED Lamp; LuminousIntensity: 3.6mcd (Minimum).; PCB_Layout: Complies with manufacturer's recommendation.; DrillSize: Nominal, Rounded to nearest 0.05mm; Published: 11-Dec-2002; DatasheetDocument: 30-Apr-2002; PackageDocument: 19-Apr-2001; PackageReference: 2.2X2.1X2.9Y; Publisher: Altium Limited; LED_Colour: Yellow; ComponentLink1Description: Manufacturer Link; ComponentLink1URL: http://www.agilent.com/; ComponentLink2Description: Datasheet; ComponentLink2URL: http://cp.literature.agilent.com/litweb/pdf/5988-6260EN.pdf
footprint 2.2X2.1X2.9Y (SM LED; 2 Yoke Leads)
simulation model Agl_HLMP7019 (Diode)
signal-integrity model LED
pins: 1 A, 2 K

## HLMP-6405-J0031
designator D?
Subminiature Yellow LED Lamp; LuminousIntensity: 3.6mcd (Minimum).; PCB_Layout: Complies with manufacturer's recommendation.; DrillSize: Nominal, Rounded to nearest 0.05mm; Published: 11-Dec-2002; DatasheetDocument: 30-Apr-2002; PackageDocument: 19-Apr-2001; PackageReference: 2.2X2.1X2.9Z; Publisher: Altium Limited; LED_Colour: Yellow; ComponentLink1Description: Manufacturer Link; ComponentLink1URL: http://www.agilent.com/; ComponentLink2Description: Datasheet; ComponentLink2URL: http://cp.literature.agilent.com/litweb/pdf/5988-6260EN.pdf
footprint 2.2X2.1X2.9Z (SM LED; 2 Z-Bend Leads)
simulation model Agl_HLMP7019 (Diode)
signal-integrity model LED
pins: 1 A, 2 K

## HLMP-6405-MN011
designator D?
Subminiature Yellow LED Lamp; LuminousIntensity: 16mcd (Minimum).; PCB_Layout: Complies with manufacturer's recommendation.; Published: 11-Dec-2002; LatestRevisionDate: 19-Mar-2004; LatestRevisionNote: Silkscreen size reduced.; DatasheetDocument: 30-Apr-2002; PackageDocument: 19-Apr-2001; PackageReference: 2.2X2.1X2.9; Publisher: Altium Limited; LED_Colour: Yellow; ComponentLink1Description: Manufacturer Link; ComponentLink1URL: http://www.agilent.com/; ComponentLink2Description: Datasheet; ComponentLink2URL: http://cp.literature.agilent.com/litweb/pdf/5988-6260EN.pdf
footprint 2.2X2.1X2.9 (SM LED; 2 Gull Wing Leads; Body 2.2 x 2.1 mm, (LxW))
simulation model Agl_HLMP7019 (Diode)
signal-integrity model LED
pins: 1 A, 2 K

## HLMP-6500-F0011
designator D?
Subminiature Green LED Lamp; LuminousIntensity: 1mcd (Minimum).; PCB_Layout: Complies with manufacturer's recommendation.; Published: 11-Dec-2002; LatestRevisionDate: 19-Mar-2004; LatestRevisionNote: Silkscreen size reduced.; DatasheetDocument: 30-Apr-2002; PackageDocument: 19-Apr-2001; PackageReference: 2.2X2.1X2.9; Publisher: Altium Limited; LED_Colour: Green; ComponentLink1Description: Manufacturer Link; ComponentLink1URL: http://www.agilent.com/; ComponentLink2Description: Datasheet; ComponentLink2URL: http://cp.literature.agilent.com/litweb/pdf/5988-6260EN.pdf
footprint 2.2X2.1X2.9 (SM LED; 2 Gull Wing Leads; Body 2.2 x 2.1 mm, (LxW))
simulation model Agl_HLMP7040 (Diode)
signal-integrity model LED
pins: 1 A, 2 K

## HLMP-6500-F0012
designator D?
Subminiature Green LED Lamp; LuminousIntensity: 1mcd (Minimum).; PCB_Layout: Complies with manufacturer's recommendation.; Published: 11-Dec-2002; LatestRevisionDate: 19-Mar-2004; LatestRevisionNote: Silkscreen size reduced.; DatasheetDocument: 30-Apr-2002; PackageDocument: 19-Apr-2001; PackageReference: 2.2X2.1X2.9; Publisher: Altium Limited; LED_Colour: Green; ComponentLink1Description: Manufacturer Link; ComponentLink1URL: http://www.agilent.com/; ComponentLink2Description: Datasheet; ComponentLink2URL: http://cp.literature.agilent.com/litweb/pdf/5988-6260EN.pdf
footprint 2.2X2.1X2.9 (SM LED; 2 Gull Wing Leads; Body 2.2 x 2.1 mm, (LxW))
simulation model Agl_HLMP7040 (Diode)
signal-integrity model LED
pins: 1 A, 2 K

## HLMP-6500-F0021
designator D?
Subminiature Green LED Lamp; LuminousIntensity: 1mcd (Minimum).; PCB_Layout: Complies with manufacturer's recommendation.; DrillSize: Nominal, Rounded to nearest 0.05mm; Published: 11-Dec-2002; DatasheetDocument: 30-Apr-2002; PackageDocument: 19-Apr-2001; PackageReference: 2.2X2.1X2.9Y; Publisher: Altium Limited; LED_Colour: Green; ComponentLink1Description: Manufacturer Link; ComponentLink1URL: http://www.agilent.com/; ComponentLink2Description: Datasheet; ComponentLink2URL: http://cp.literature.agilent.com/litweb/pdf/5988-6260EN.pdf
footprint 2.2X2.1X2.9Y (SM LED; 2 Yoke Leads)
simulation model Agl_HLMP7040 (Diode)
signal-integrity model LED
pins: 1 A, 2 K

## HLMP-6500-F0022
designator D?
Subminiature Green LED Lamp; LuminousIntensity: 1mcd (Minimum).; PCB_Layout: Complies with manufacturer's recommendation.; DrillSize: Nominal, Rounded to nearest 0.05mm; Published: 11-Dec-2002; DatasheetDocument: 30-Apr-2002; PackageDocument: 19-Apr-2001; PackageReference: 2.2X2.1X2.9Y; Publisher: Altium Limited; LED_Colour: Green; ComponentLink1Description: Manufacturer Link; ComponentLink1URL: http://www.agilent.com/; ComponentLink2Description: Datasheet; ComponentLink2URL: http://cp.literature.agilent.com/litweb/pdf/5988-6260EN.pdf
footprint 2.2X2.1X2.9Y (SM LED; 2 Yoke Leads)
simulation model Agl_HLMP7040 (Diode)
signal-integrity model LED
pins: 1 A, 2 K

## HLMP-6500-F0024
designator D?
Subminiature Green LED Lamp; LuminousIntensity: 1mcd (Minimum).; PCB_Layout: Complies with manufacturer's recommendation.; DrillSize: Nominal, Rounded to nearest 0.05mm; Published: 11-Dec-2002; DatasheetDocument: 30-Apr-2002; PackageDocument: 19-Apr-2001; PackageReference: 2.2X2.1X2.9Y; Publisher: Altium Limited; LED_Colour: Green; ComponentLink1Description: Manufacturer Link; ComponentLink1URL: http://www.agilent.com/; ComponentLink2Description: Datasheet; ComponentLink2URL: http://cp.literature.agilent.com/litweb/pdf/5988-6260EN.pdf
footprint 2.2X2.1X2.9Y (SM LED; 2 Yoke Leads)
simulation model Agl_HLMP7040 (Diode)
signal-integrity model LED
pins: 1 A, 2 K

## HLMP-6500-F0031
designator D?
Subminiature Green LED Lamp; LuminousIntensity: 1mcd (Minimum).; PCB_Layout: Complies with manufacturer's recommendation.; DrillSize: Nominal, Rounded to nearest 0.05mm; Published: 11-Dec-2002; DatasheetDocument: 30-Apr-2002; PackageDocument: 19-Apr-2001; PackageReference: 2.2X2.1X2.9Z; Publisher: Altium Limited; LED_Colour: Green; ComponentLink1Description: Manufacturer Link; ComponentLink1URL: http://www.agilent.com/; ComponentLink2Description: Datasheet; ComponentLink2URL: http://cp.literature.agilent.com/litweb/pdf/5988-6260EN.pdf
footprint 2.2X2.1X2.9Z (SM LED; 2 Z-Bend Leads)
simulation model Agl_HLMP7040 (Diode)
signal-integrity model LED
pins: 1 A, 2 K

## HLMP-6505-L0011
designator D?
Subminiature Green LED Lamp; LuminousIntensity: 10mcd (Minimum).; PCB_Layout: Complies with manufacturer's recommendation.; Published: 11-Dec-2002; LatestRevisionDate: 19-Mar-2004; LatestRevisionNote: Silkscreen size reduced.; DatasheetDocument: 30-Apr-2002; PackageDocument: 19-Apr-2001; PackageReference: 2.2X2.1X2.9; Publisher: Altium Limited; LED_Colour: Green; ComponentLink1Description: Manufacturer Link; ComponentLink1URL: http://www.agilent.com/; ComponentLink2Description: Datasheet; ComponentLink2URL: http://cp.literature.agilent.com/litweb/pdf/5988-6260EN.pdf
footprint 2.2X2.1X2.9 (SM LED; 2 Gull Wing Leads; Body 2.2 x 2.1 mm, (LxW))
simulation model Agl_HLMP7040 (Diode)
signal-integrity model LED
pins: 1 A, 2 K

## HLMP-6505-L0014
designator D?
Subminiature Green LED Lamp; LuminousIntensity: 10mcd (Minimum).; PCB_Layout: Complies with manufacturer's recommendation.; Published: 11-Dec-2002; LatestRevisionDate: 19-Mar-2004; LatestRevisionNote: Silkscreen size reduced.; DatasheetDocument: 30-Apr-2002; PackageDocument: 19-Apr-2001; PackageReference: 2.2X2.1X2.9; Publisher: Altium Limited; LED_Colour: Green; ComponentLink1Description: Manufacturer Link; ComponentLink1URL: http://www.agilent.com/; ComponentLink2Description: Datasheet; ComponentLink2URL: http://cp.literature.agilent.com/litweb/pdf/5988-6260EN.pdf
footprint 2.2X2.1X2.9 (SM LED; 2 Gull Wing Leads; Body 2.2 x 2.1 mm, (LxW))
simulation model Agl_HLMP7040 (Diode)
signal-integrity model LED
pins: 1 A, 2 K

## HLMP-6505-L0021
designator D?
Subminiature Green LED Lamp; LuminousIntensity: 10mcd (Minimum).; PCB_Layout: Complies with manufacturer's recommendation.; DrillSize: Nominal, Rounded to nearest 0.05mm; Published: 11-Dec-2002; DatasheetDocument: 30-Apr-2002; PackageDocument: 19-Apr-2001; PackageReference: 2.2X2.1X2.9Y; Publisher: Altium Limited; LED_Colour: Green; ComponentLink1Description: Manufacturer Link; ComponentLink1URL: http://www.agilent.com/; ComponentLink2Description: Datasheet; ComponentLink2URL: http://cp.literature.agilent.com/litweb/pdf/5988-6260EN.pdf
footprint 2.2X2.1X2.9Y (SM LED; 2 Yoke Leads)
simulation model Agl_HLMP7040 (Diode)
signal-integrity model LED
pins: 1 A, 2 K

## HLMP-6505-L0031
designator D?
Subminiature Green LED Lamp; LuminousIntensity: 10mcd (Minimum).; PCB_Layout: Complies with manufacturer's recommendation.; DrillSize: Nominal, Rounded to nearest 0.05mm; Published: 11-Dec-2002; DatasheetDocument: 30-Apr-2002; PackageDocument: 19-Apr-2001; PackageReference: 2.2X2.1X2.9Z; Publisher: Altium Limited; LED_Colour: Green; ComponentLink1Description: Manufacturer Link; ComponentLink1URL: http://www.agilent.com/; ComponentLink2Description: Datasheet; ComponentLink2URL: http://cp.literature.agilent.com/litweb/pdf/5988-6260EN.pdf
footprint 2.2X2.1X2.9Z (SM LED; 2 Z-Bend Leads)
simulation model Agl_HLMP7040 (Diode)
signal-integrity model LED
pins: 1 A, 2 K

## HLMP-6600-G0011
designator D?
Subminiature Red LED Lamp; LuminousIntensity: 1.6mcd (Minimum).; PCB_Layout: Complies with manufacturer's recommendation.; Note: SIM model accounts for the Domed Subminiature Resistor. Extra resistance has been added to the parameter RS.; Published: 11-Dec-2002; LatestRevisionDate: 19-Mar-2004; LatestRevisionNote: Silkscreen size reduced.; DatasheetDocument: 30-Apr-2002; PackageDocument: 19-Apr-2001; PackageReference: 2.2X2.1X2.9; Publisher: Altium Limited; LED_Colour: Red; ComponentLink1Description: Manufacturer Link; ComponentLink1URL: http://www.agilent.com/; ComponentLink2Description: Datasheet; ComponentLink2URL: http://cp.literature.agilent.com/litweb/pdf/5988-6260EN.pdf
footprint 2.2X2.1X2.9 (SM LED; 2 Gull Wing Leads; Body 2.2 x 2.1 mm, (LxW))
simulation model Agl_HLMP6600 (Diode)
signal-integrity model LED
pins: 1 A, 2 K

## HLMP-6620-F0011
designator D?
Subminiature Red LED Lamp; LuminousIntensity: 1mcd (Minimum).; PCB_Layout: Complies with manufacturer's recommendation.; Note: SIM model accounts for the Domed Subminiature Resistor. Extra resistance has been added to the parameter RS.; Published: 11-Dec-2002; LatestRevisionDate: 19-Mar-2004; LatestRevisionNote: Silkscreen size reduced.; DatasheetDocument: 30-Apr-2002; PackageDocument: 19-Apr-2001; PackageReference: 2.2X2.1X2.9; Publisher: Altium Limited; LED_Colour: Red; ComponentLink1Description: Manufacturer Link; ComponentLink1URL: http://www.agilent.com/; ComponentLink2Description: Datasheet; ComponentLink2URL: http://cp.literature.agilent.com/litweb/pdf/5988-6260EN.pdf
footprint 2.2X2.1X2.9 (SM LED; 2 Gull Wing Leads; Body 2.2 x 2.1 mm, (LxW))
simulation model Agl_HLMP6620 (Diode)
signal-integrity model LED
pins: 1 A, 2 K

## HLMP-6620-F0021
designator D?
Subminiature Red LED Lamp; LuminousIntensity: 1mcd (Minimum).; PCB_Layout: Complies with manufacturer's recommendation.; DrillSize: Nominal, Rounded to nearest 0.05mm; Note: SIM model accounts for the Domed Subminiature Resistor. Extra resistance has been added to the parameter RS.; Published: 11-Dec-2002; DatasheetDocument: 30-Apr-2002; PackageDocument: 19-Apr-2001; PackageReference: 2.2X2.1X2.9Y; Publisher: Altium Limited; LED_Colour: Red; ComponentLink1Description: Manufacturer Link; ComponentLink1URL: http://www.agilent.com/; ComponentLink2Description: Datasheet; ComponentLink2URL: http://cp.literature.agilent.com/litweb/pdf/5988-6260EN.pdf
footprint 2.2X2.1X2.9Y (SM LED; 2 Yoke Leads)
simulation model Agl_HLMP6620 (Diode)
signal-integrity model LED
pins: 1 A, 2 K

## HLMP-6620-F0031
designator D?
Subminiature Red LED Lamp; LuminousIntensity: 1mcd (Minimum).; PCB_Layout: Complies with manufacturer's recommendation.; DrillSize: Nominal, Rounded to nearest 0.05mm; Note: SIM model accounts for the Domed Subminiature Resistor. Extra resistance has been added to the parameter RS.; Published: 11-Dec-2002; DatasheetDocument: 30-Apr-2002; PackageDocument: 19-Apr-2001; PackageReference: 2.2X2.1X2.9Z; Publisher: Altium Limited; LED_Colour: Red; ComponentLink1Description: Manufacturer Link; ComponentLink1URL: http://www.agilent.com/; ComponentLink2Description: Datasheet; ComponentLink2URL: http://cp.literature.agilent.com/litweb/pdf/5988-6260EN.pdf
footprint 2.2X2.1X2.9Z (SM LED; 2 Z-Bend Leads)
simulation model Agl_HLMP6620 (Diode)
signal-integrity model LED
pins: 1 A, 2 K

## HLMP-6620-F0032
designator D?
Subminiature Red LED Lamp; LuminousIntensity: 1mcd (Minimum).; PCB_Layout: Complies with manufacturer's recommendation.; DrillSize: Nominal, Rounded to nearest 0.05mm; Note: SIM model accounts for the Domed Subminiature Resistor. Extra resistance has been added to the parameter RS.; Published: 11-Dec-2002; DatasheetDocument: 30-Apr-2002; PackageDocument: 19-Apr-2001; PackageReference: 2.2X2.1X2.9Z; Publisher: Altium Limited; LED_Colour: Red; ComponentLink1Description: Manufacturer Link; ComponentLink1URL: http://www.agilent.com/; ComponentLink2Description: Datasheet; ComponentLink2URL: http://cp.literature.agilent.com/litweb/pdf/5988-6260EN.pdf
footprint 2.2X2.1X2.9Z (SM LED; 2 Z-Bend Leads)
simulation model Agl_HLMP6620 (Diode)
signal-integrity model LED
pins: 1 A, 2 K